# Altium schematic symbol library ANT_SMA.Schlib: 1 symbol
Pins are listed as number, name and electrical type; pins without a type are passive.

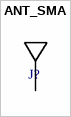
[diagram p0: symbol ANT_SMA]

## ANT_SMA
designator J?  (value not drawn)
footprint CONECTOR SMA
pins: 1, 2 hidden to GND, 3 hidden to GND, 4 hidden to GND, 5 hidden to GND